# EAGLE library part 74LS54D_D (library EW_IC_74_Logic)
4-wide And-Or-Invert. Category: Gates Manufacturer: Generic
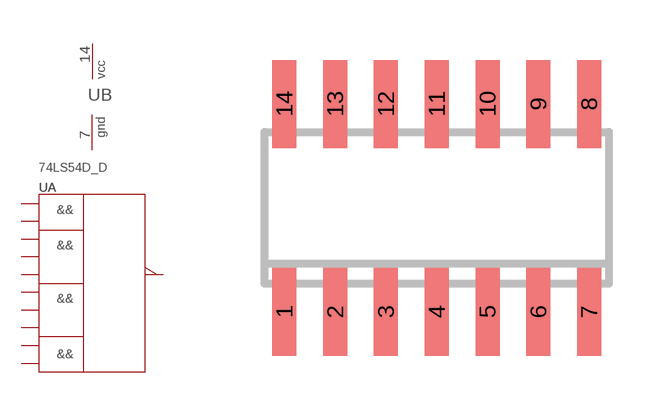
[diagram p240: symbol with the pads of SO14; footprint SO14]

Designator prefix U; gates A=7454_LS_AND-OR-INVERT B=PWRN

## 74LS54D_D  [SO14]
1  A:A  pwr
2  A:B  pwr
3  A:C  pwr
4  A:D  pwr
5  A:E  pwr
6  A:Y  pwr
7  B:GND  pwr
9  A:F  pwr
10  A:G  pwr
11  A:H  pwr
12  A:I  pwr
13  A:J  pwr
14  B:VCC  pwr

## Footprint SO14 (pad centres in mm)
SMALL OUTLINE INTEGRATED CIRCUIT body 3.9 mm/JEDEC MS-012AC
smd 0.6 x 2.2: 1 -3.81,-2.6; 2 -2.54,-2.6; 3 -1.27,-2.6; 4 0,-2.6; 5 1.27,-2.6; 6 2.54,-2.6; 7 3.81,-2.6; 8 3.81,2.6; 9 2.54,2.6; 10 1.27,2.6; 11 0,2.6; 12 -1.27,2.6; 13 -2.54,2.6; 14 -3.81,2.6